# Altium integrated library ON Semi Signal Management Digital POTs.IntLib: 284 symbols (part 2 of 11)
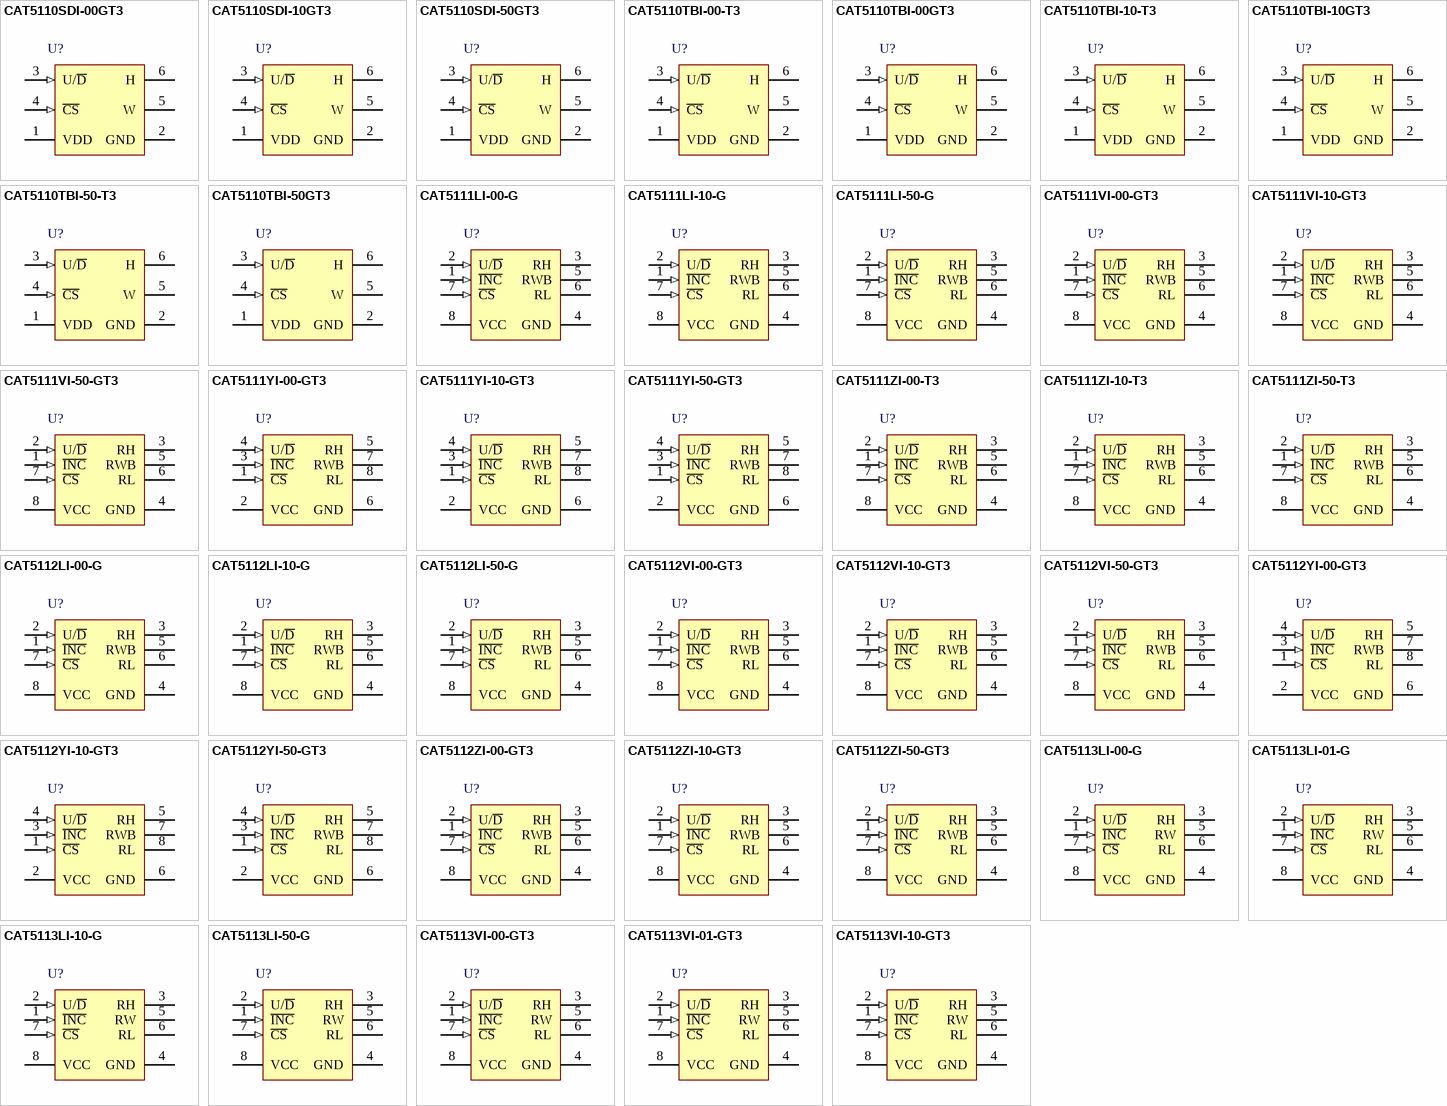
[diagram p10: symbols CAT5110SDI-00GT3 to CAT5113VI-10-GT3]

## CAT5112ZI-50-GT3
designator U?
32 Tap Digital Potentiometer (POT) with Buffered Wiper, -40 to 85 degC, 8-Pin MSOP, Pb-Free, Tape and Reel; Manufacturer: On Semiconductor; PartNumber: CAT5112ZI-50-GT3; # of Pots: 1; # of Taps: 32; Control Interface: Up/Down; VDD Max (V): 6; DatasheetVersion: Rev. 16; PackageVersion: Rev. O, 12/2008; PackageReference: MSOP-8-846AD-01_O; PackageDescription: 8-Pin Small Outline Package, Body 3 x 3 mm, Pitch 0.65 mm; Supplier 1: Digi-Key; Supplier Part Number 1: CAT5112ZI-50-GT3-ND; Supplier 2: Mouser; Supplier Part Number 2: 698-CAT5112ZI-50-GT3; Packing: Tape and Reel; RoHS: TRUE; Type: Potentiometer; Mounting Technology: Surface Mount; Code_JEDEC: MO-187; ComponentLink1Description: Manufacturer URL; ComponentLink1URL: http://www.onsemi.com/; ComponentLink2Description: Datasheet; ComponentLink2URL: http://www.onsemi.com/pub_link/Collateral/CAT5112-D.PDF; ComponentLink3Description: Package Specification; ComponentLink3URL: http://www.onsemi.com/pub_link/Collateral/846AD.PDF
footprint ONSC-MSOP-8-846AD-01_N (SOP, 8-Leads, Body 3.1x3.1mm, Pitch 0.65mm, IPC Medium Density)
footprint ONSC-MSOP-8-846AD-01_L (SOP, 8-Leads, Body 3.1x3.1mm, Pitch 0.65mm, IPC High Density)
footprint ONSC-MSOP-8-846AD-01_M (SOP, 8-Leads, Body 3.1x3.1mm, Pitch 0.65mm, IPC Low Density)
pins: 1 ~{INC} (in) "Increment Control", 2 U/~{D} (in) "Up/Down Control", 3 RH "Potentiometer High Terminal", 4 GND (power) "Ground", 5 RWB "Buffered Wiper Terminal", 6 RL "Potentiometer Low Terminal", 7 ~{CS} (in) "Chip Select", 8 VCC (power) "Supply Voltage"

## CAT5113LI-00-G
designator U?
100 Tap Digital Potentiometer (POT), -40 to 85 degC, 8-Pin PDIP, Pb-Free, Tube; Manufacturer: On Semiconductor; PartNumber: CAT5113LI-00-G; # of Pots: 1; # of Taps: 100; Control Interface: Up/Down; VDD Max (V): 6; DatasheetVersion: Rev. 26; PackageVersion: Rev. A, 03/2009; PackageReference: PDIP-8-646AA-01; PackageDescription: 8-Pin Plastic Dual-In Line Package, Body 9.59 x 6.605 mm, Pitch 2.54 mm; Supplier 1: Digi-Key; Supplier Part Number 1: CAT5113LI-00-G-ND; Supplier 2: Mouser; Supplier Part Number 2: 698-CAT5113LI-00-G; Packing: Tube; RoHS: TRUE; Type: Potentiometer; Mounting Technology: Through Hole; Code_JEDEC: MS-001; ComponentLink1Description: Manufacturer URL; ComponentLink1URL: http://www.onsemi.com/; ComponentLink2Description: Datasheet; ComponentLink2URL: http://www.onsemi.com/pub_link/Collateral/CAT5113-D.PDF; ComponentLink3Description: Package Specification; ComponentLink3URL: http://www.onsemi.com/pub_link/Collateral/646AA.PDF
footprint ONSC-PDIP-8-646AA-01 (DIP, 8-Leads, Body 10.15x7.1mm, Pitch 2.54mm)
pins: 1 ~{INC} (in) "Increment Control", 2 U/~{D} (in) "Up/Down Control", 3 RH "Potentiometer High Terminal", 4 GND (power) "Ground", 5 RW, 6 RL "Potentiometer Low Terminal", 7 ~{CS} (in) "Chip Select", 8 VCC (power) "Supply Voltage"

## CAT5113LI-01-G
designator U?
100 Tap Digital Potentiometer (POT), -40 to 85 degC, 8-Pin PDIP, Pb-Free, Tube; Manufacturer: On Semiconductor; PartNumber: CAT5113LI-01-G; # of Pots: 1; # of Taps: 100; Control Interface: Up/Down; VDD Max (V): 6; DatasheetVersion: Rev. 26; PackageVersion: Rev. A, 03/2009; PackageReference: PDIP-8-646AA-01; PackageDescription: 8-Pin Plastic Dual-In Line Package, Body 9.59 x 6.605 mm, Pitch 2.54 mm; Supplier 1: Digi-Key; Supplier Part Number 1: CAT5113LI-01-G-ND; Supplier 2: Farnell; Supplier Part Number 2: 1718421; Supplier 3: Newark; Supplier Part Number 3: 06R1069; Supplier 4: Mouser; Supplier Part Number 4: 698-CAT5113LI-01-G; Packing: Tube; RoHS: TRUE; Type: Potentiometer; Mounting Technology: Through Hole; Code_JEDEC: MS-001; ComponentLink1Description: Manufacturer URL; ComponentLink1URL: http://www.onsemi.com/; ComponentLink2Description: Datasheet; ComponentLink2URL: http://www.onsemi.com/pub_link/Collateral/CAT5113-D.PDF; ComponentLink3Description: Package Specification; ComponentLink3URL: http://www.onsemi.com/pub_link/Collateral/646AA.PDF
footprint ONSC-PDIP-8-646AA-01 (DIP, 8-Leads, Body 10.15x7.1mm, Pitch 2.54mm)
pins: 1 ~{INC} (in) "Increment Control", 2 U/~{D} (in) "Up/Down Control", 3 RH "Potentiometer High Terminal", 4 GND (power) "Ground", 5 RW, 6 RL "Potentiometer Low Terminal", 7 ~{CS} (in) "Chip Select", 8 VCC (power) "Supply Voltage"

## CAT5113LI-10-G
designator U?
100 Tap Digital Potentiometer (POT), -40 to 85 degC, 8-Pin PDIP, Pb-Free, Tube; Manufacturer: On Semiconductor; PartNumber: CAT5113LI-10-G; # of Pots: 1; # of Taps: 100; Control Interface: Up/Down; VDD Max (V): 6; DatasheetVersion: Rev. 26; PackageVersion: Rev. A, 03/2009; PackageReference: PDIP-8-646AA-01; PackageDescription: 8-Pin Plastic Dual-In Line Package, Body 9.59 x 6.605 mm, Pitch 2.54 mm; Supplier 1: Digi-Key; Supplier Part Number 1: CAT5113LI-10-G-ND; Supplier 2: Farnell; Supplier Part Number 2: 1718054; Supplier 3: Newark; Supplier Part Number 3: 06R1071; Supplier 4: Mouser; Supplier Part Number 4: 698-CAT5113LI-10-G; Packing: Tube; RoHS: TRUE; Type: Potentiometer; Mounting Technology: Through Hole; Code_JEDEC: MS-001; ComponentLink1Description: Manufacturer URL; ComponentLink1URL: http://www.onsemi.com/; ComponentLink2Description: Datasheet; ComponentLink2URL: http://www.onsemi.com/pub_link/Collateral/CAT5113-D.PDF; ComponentLink3Description: Package Specification; ComponentLink3URL: http://www.onsemi.com/pub_link/Collateral/646AA.PDF
footprint ONSC-PDIP-8-646AA-01 (DIP, 8-Leads, Body 10.15x7.1mm, Pitch 2.54mm)
pins: 1 ~{INC} (in) "Increment Control", 2 U/~{D} (in) "Up/Down Control", 3 RH "Potentiometer High Terminal", 4 GND (power) "Ground", 5 RW, 6 RL "Potentiometer Low Terminal", 7 ~{CS} (in) "Chip Select", 8 VCC (power) "Supply Voltage"

## CAT5113LI-50-G
designator U?
100 Tap Digital Potentiometer (POT), -40 to 85 degC, 8-Pin PDIP, Pb-Free, Tube; Manufacturer: On Semiconductor; PartNumber: CAT5113LI-50-G; # of Pots: 1; # of Taps: 100; Control Interface: Up/Down; VDD Max (V): 6; DatasheetVersion: Rev. 26; PackageVersion: Rev. A, 03/2009; PackageReference: PDIP-8-646AA-01; PackageDescription: 8-Pin Plastic Dual-In Line Package, Body 9.59 x 6.605 mm, Pitch 2.54 mm; Supplier 1: Digi-Key; Supplier Part Number 1: CAT5113LI-50-G-ND; Supplier 2: Mouser; Supplier Part Number 2: 698-CAT5113LI-50-G; Packing: Tube; RoHS: TRUE; Type: Potentiometer; Mounting Technology: Through Hole; Code_JEDEC: MS-001; ComponentLink1Description: Manufacturer URL; ComponentLink1URL: http://www.onsemi.com/; ComponentLink2Description: Datasheet; ComponentLink2URL: http://www.onsemi.com/pub_link/Collateral/CAT5113-D.PDF; ComponentLink3Description: Package Specification; ComponentLink3URL: http://www.onsemi.com/pub_link/Collateral/646AA.PDF
footprint ONSC-PDIP-8-646AA-01 (DIP, 8-Leads, Body 10.15x7.1mm, Pitch 2.54mm)
pins: 1 ~{INC} (in) "Increment Control", 2 U/~{D} (in) "Up/Down Control", 3 RH "Potentiometer High Terminal", 4 GND (power) "Ground", 5 RW, 6 RL "Potentiometer Low Terminal", 7 ~{CS} (in) "Chip Select", 8 VCC (power) "Supply Voltage"

## CAT5113VI-00-GT3
designator U?
100 Tap Digital Potentiometer (POT), -40 to 85 degC, 8-Pin SOIC, Pb-Free, Tape and Reel; Manufacturer: On Semiconductor; PartNumber: CAT5113VI-00-GT3; # of Pots: 1; # of Taps: 100; Control Interface: Up/Down; VDD Max (V): 6; DatasheetVersion: Rev. 26; PackageVersion: Rev. O, 12/2008; PackageReference: SOIC-8-751BD-01; PackageDescription: 8-Pin Small Outline Integrated Circuit, Body 4.9 x 3.9 mm, Pitch 1.27 mm; Supplier 1: Digi-Key; Supplier Part Number 1: CAT5113VI-00-GT3-ND; Supplier 2: Newark; Supplier Part Number 2: 06R1076; Supplier 3: Mouser; Supplier Part Number 3: 698-CAT5113VI-00-GT3; Packing: Tape and Reel; RoHS: TRUE; Type: Potentiometer; Mounting Technology: Surface Mount; Code_JEDEC: MS-012; ComponentLink1Description: Manufacturer URL; ComponentLink1URL: http://www.onsemi.com/; ComponentLink2Description: Datasheet; ComponentLink2URL: http://www.onsemi.com/pub_link/Collateral/CAT5113-D.PDF; ComponentLink3Description: Package Specification; ComponentLink3URL: http://www.onsemi.com/pub_link/Collateral/751BD.PDF
footprint ONSC-SOIC-8-751BD-01_N (SOIC, 8-Leads, Body 5x4mm, Pitch 1.27mm, IPC Medium Density)
footprint ONSC-SOIC-8-751BD-01_L (SOIC, 8-Leads, Body 5x4mm, Pitch 1.27mm, IPC High Density)
footprint ONSC-SOIC-8-751BD-01_M (SOIC, 8-Leads, Body 5x4mm, Pitch 1.27mm, IPC Low Density)
pins: 1 ~{INC} (in) "Increment Control", 2 U/~{D} (in) "Up/Down Control", 3 RH "Potentiometer High Terminal", 4 GND (power) "Ground", 5 RW, 6 RL "Potentiometer Low Terminal", 7 ~{CS} (in) "Chip Select", 8 VCC (power) "Supply Voltage"

## CAT5113VI-01-GT3
designator U?
100 Tap Digital Potentiometer (POT), -40 to 85 degC, 8-Pin SOIC, Pb-Free, Tape and Reel; Manufacturer: On Semiconductor; PartNumber: CAT5113VI-01-GT3; # of Pots: 1; # of Taps: 100; Control Interface: Up/Down; VDD Max (V): 6; DatasheetVersion: Rev. 26; PackageVersion: Rev. O, 12/2008; PackageReference: SOIC-8-751BD-01; PackageDescription: 8-Pin Small Outline Integrated Circuit, Body 4.9 x 3.9 mm, Pitch 1.27 mm; Supplier 1: Digi-Key; Supplier Part Number 1: CAT5113VI-01-GT3-ND; Supplier 2: Newark; Supplier Part Number 2: 06R1080; Supplier 3: Mouser; Supplier Part Number 3: 698-CAT5113VI-01-GT3; Packing: Tape and Reel; RoHS: TRUE; Type: Potentiometer; Mounting Technology: Surface Mount; Code_JEDEC: MS-012; ComponentLink1Description: Manufacturer URL; ComponentLink1URL: http://www.onsemi.com/; ComponentLink2Description: Datasheet; ComponentLink2URL: http://www.onsemi.com/pub_link/Collateral/CAT5113-D.PDF; ComponentLink3Description: Package Specification; ComponentLink3URL: http://www.onsemi.com/pub_link/Collateral/751BD.PDF
footprint ONSC-SOIC-8-751BD-01_N (SOIC, 8-Leads, Body 5x4mm, Pitch 1.27mm, IPC Medium Density)
footprint ONSC-SOIC-8-751BD-01_L (SOIC, 8-Leads, Body 5x4mm, Pitch 1.27mm, IPC High Density)
footprint ONSC-SOIC-8-751BD-01_M (SOIC, 8-Leads, Body 5x4mm, Pitch 1.27mm, IPC Low Density)
pins: 1 ~{INC} (in) "Increment Control", 2 U/~{D} (in) "Up/Down Control", 3 RH "Potentiometer High Terminal", 4 GND (power) "Ground", 5 RW, 6 RL "Potentiometer Low Terminal", 7 ~{CS} (in) "Chip Select", 8 VCC (power) "Supply Voltage"

## CAT5113VI-10-GT3
designator U?
100 Tap Digital Potentiometer (POT), -40 to 85 degC, 8-Pin SOIC, Pb-Free, Tape and Reel; Manufacturer: On Semiconductor; PartNumber: CAT5113VI-10-GT3; # of Pots: 1; # of Taps: 100; Control Interface: Up/Down; VDD Max (V): 6; DatasheetVersion: Rev. 26; PackageVersion: Rev. O, 12/2008; PackageReference: SOIC-8-751BD-01; PackageDescription: 8-Pin Small Outline Integrated Circuit, Body 4.9 x 3.9 mm, Pitch 1.27 mm; Supplier 1: Digi-Key; Supplier Part Number 1: CAT5113VI-10-GT3OSTR-ND; Supplier 2: Digi-Key; Supplier Part Number 2: CAT5113VI-10-GT3OSCT-ND; Supplier 3: Digi-Key; Supplier Part Number 3: CAT5113VI-10-GT3OSDKR-ND; Supplier 4: Newark; Supplier Part Number 4: 06R1084; Supplier 5: Mouser; Supplier Part Number 5: 698-CAT5113VI-10-GT3; Packing: Tape and Reel; RoHS: TRUE; Type: Potentiometer; Mounting Technology: Surface Mount; Code_JEDEC: MS-012; ComponentLink1Description: Manufacturer URL; ComponentLink1URL: http://www.onsemi.com/; ComponentLink2Description: Datasheet; ComponentLink2URL: http://www.onsemi.com/pub_link/Collateral/CAT5113-D.PDF; ComponentLink3Description: Package Specification; ComponentLink3URL: http://www.onsemi.com/pub_link/Collateral/751BD.PDF
footprint ONSC-SOIC-8-751BD-01_N (SOIC, 8-Leads, Body 5x4mm, Pitch 1.27mm, IPC Medium Density)
footprint ONSC-SOIC-8-751BD-01_L (SOIC, 8-Leads, Body 5x4mm, Pitch 1.27mm, IPC High Density)
footprint ONSC-SOIC-8-751BD-01_M (SOIC, 8-Leads, Body 5x4mm, Pitch 1.27mm, IPC Low Density)
pins: 1 ~{INC} (in) "Increment Control", 2 U/~{D} (in) "Up/Down Control", 3 RH "Potentiometer High Terminal", 4 GND (power) "Ground", 5 RW, 6 RL "Potentiometer Low Terminal", 7 ~{CS} (in) "Chip Select", 8 VCC (power) "Supply Voltage"

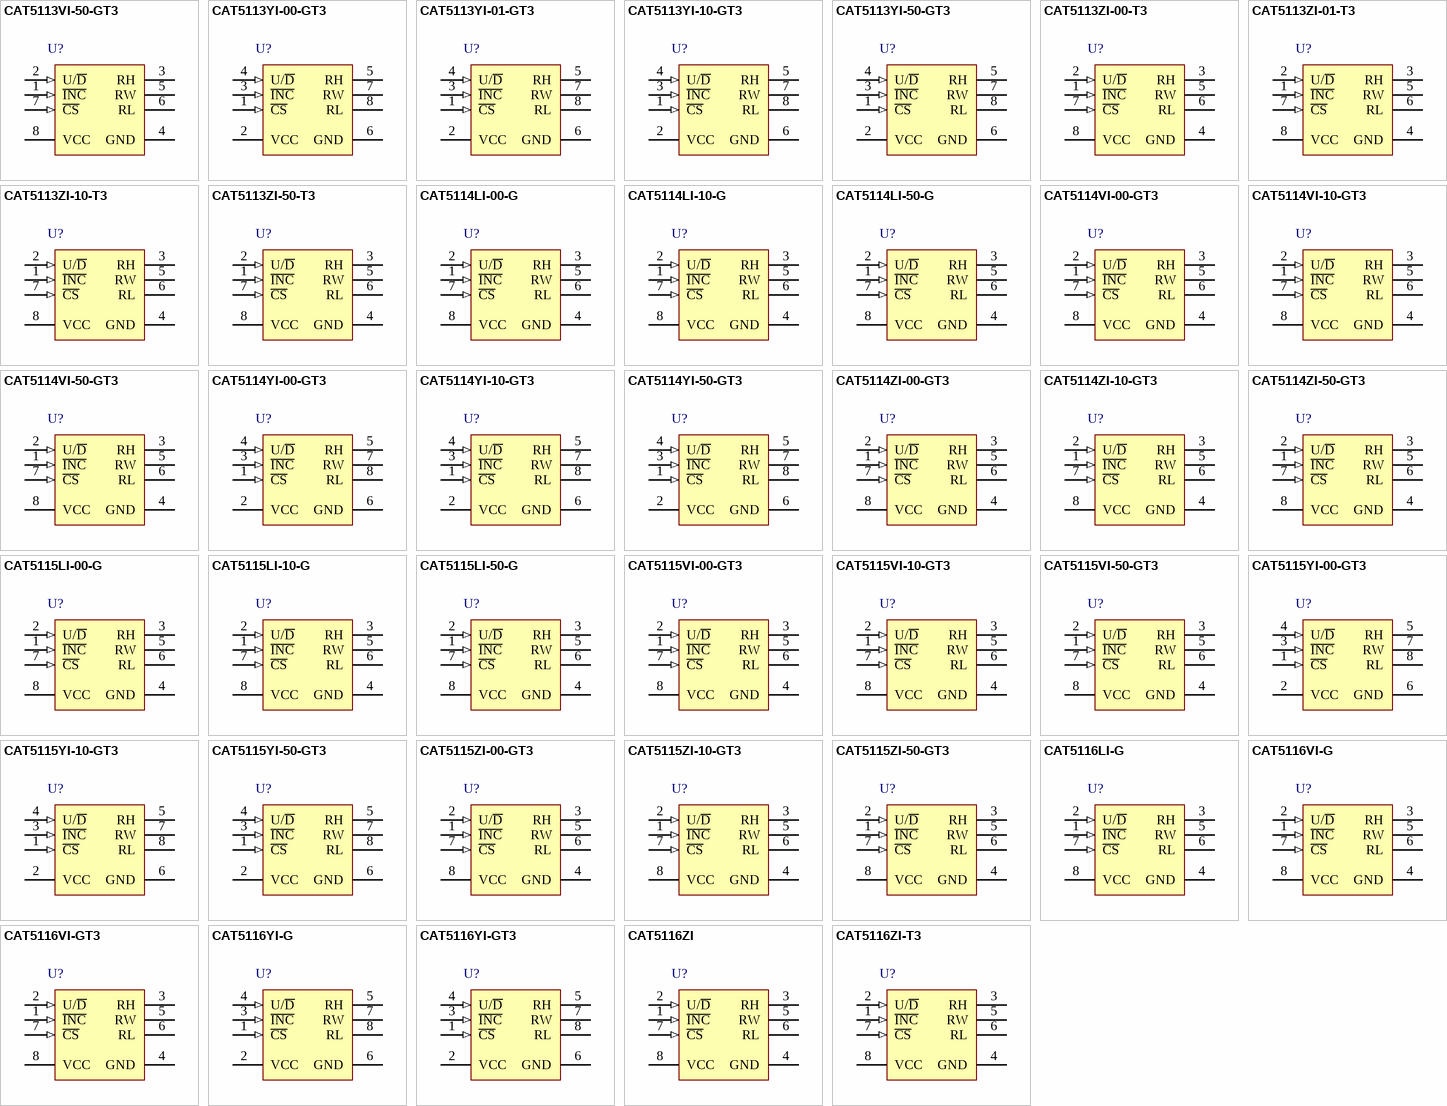
[diagram p1: symbols CAT5113VI-50-GT3 to CAT5116ZI-T3]

## CAT5113VI-50-GT3
designator U?
100 Tap Digital Potentiometer (POT), -40 to 85 degC, 8-Pin SOIC, Pb-Free, Tape and Reel; Manufacturer: On Semiconductor; PartNumber: CAT5113VI-50-GT3; # of Pots: 1; # of Taps: 100; Control Interface: Up/Down; VDD Max (V): 6; DatasheetVersion: Rev. 26; PackageVersion: Rev. O, 12/2008; PackageReference: SOIC-8-751BD-01; PackageDescription: 8-Pin Small Outline Integrated Circuit, Body 4.9 x 3.9 mm, Pitch 1.27 mm; Supplier 1: Digi-Key; Supplier Part Number 1: CAT5113VI-50-GT3-ND; Supplier 2: Newark; Supplier Part Number 2: 06R1088; Supplier 3: Mouser; Supplier Part Number 3: 698-CAT5113VI-50-GT3; Packing: Tape and Reel; RoHS: TRUE; Type: Potentiometer; Mounting Technology: Surface Mount; Code_JEDEC: MS-012; ComponentLink1Description: Manufacturer URL; ComponentLink1URL: http://www.onsemi.com/; ComponentLink2Description: Datasheet; ComponentLink2URL: http://www.onsemi.com/pub_link/Collateral/CAT5113-D.PDF; ComponentLink3Description: Package Specification; ComponentLink3URL: http://www.onsemi.com/pub_link/Collateral/751BD.PDF
footprint ONSC-SOIC-8-751BD-01_N (SOIC, 8-Leads, Body 5x4mm, Pitch 1.27mm, IPC Medium Density)
footprint ONSC-SOIC-8-751BD-01_L (SOIC, 8-Leads, Body 5x4mm, Pitch 1.27mm, IPC High Density)
footprint ONSC-SOIC-8-751BD-01_M (SOIC, 8-Leads, Body 5x4mm, Pitch 1.27mm, IPC Low Density)
pins: 1 ~{INC} (in) "Increment Control", 2 U/~{D} (in) "Up/Down Control", 3 RH "Potentiometer High Terminal", 4 GND (power) "Ground", 5 RW, 6 RL "Potentiometer Low Terminal", 7 ~{CS} (in) "Chip Select", 8 VCC (power) "Supply Voltage"

## CAT5113YI-00-GT3
designator U?
100 Tap Digital Potentiometer (POT), -40 to 85 degC, 8-Pin TSSOP, Pb-Free, Tape and Reel; Manufacturer: On Semiconductor; PartNumber: CAT5113YI-00-GT3; # of Pots: 1; # of Taps: 100; Control Interface: Up/Down; VDD Max (V): 6; DatasheetVersion: Rev. 26; PackageVersion: Rev. O, 12/2008; PackageReference: TSSOP-8-948AL-01; PackageDescription: 8-Pin Small Outline Package, Body 4.4 x 3 mm, Pitch 0.65 mm; Supplier 1: Digi-Key; Supplier Part Number 1: CAT5113YI-00-GT3-ND; Supplier 2: Mouser; Supplier Part Number 2: 698-CAT5113YI-00-GT3; Packing: Tape and Reel; RoHS: TRUE; Type: Potentiometer; Mounting Technology: Surface Mount; Code_JEDEC: MO-153; ComponentLink1Description: Manufacturer URL; ComponentLink1URL: http://www.onsemi.com/; ComponentLink2Description: Datasheet; ComponentLink2URL: http://www.onsemi.com/pub_link/Collateral/CAT5113-D.PDF; ComponentLink3Description: Package Specification; ComponentLink3URL: http://www.onsemi.com/pub/Collateral/948AL.PDF
footprint ONSC-TSSOP-8-948AL-01_N (SOP, 8-Leads, Body 4.5x3.1mm, Pitch 0.65mm, IPC Medium Density)
footprint ONSC-TSSOP-8-948AL-01_L (SOP, 8-Leads, Body 4.5x3.1mm, Pitch 0.65mm, IPC High Density)
footprint ONSC-TSSOP-8-948AL-01_M (SOP, 8-Leads, Body 4.5x3.1mm, Pitch 0.65mm, IPC Low Density)
pins: 1 ~{CS} (in) "Chip Select", 2 VCC (power) "Supply Voltage", 3 ~{INC} (in) "Increment Control", 4 U/~{D} (in) "Up/Down Control", 5 RH "Potentiometer High Terminal", 6 GND (power) "Ground", 7 RW, 8 RL "Potentiometer Low Terminal"

## CAT5113YI-01-GT3
designator U?
100 Tap Digital Potentiometer (POT), -40 to 85 degC, 8-Pin TSSOP, Pb-Free, Tape and Reel; Manufacturer: On Semiconductor; PartNumber: CAT5113YI-01-GT3; # of Pots: 1; # of Taps: 100; Control Interface: Up/Down; VDD Max (V): 6; DatasheetVersion: Rev. 26; PackageVersion: Rev. O, 12/2008; PackageReference: TSSOP-8-948AL-01; PackageDescription: 8-Pin Small Outline Package, Body 4.4 x 3 mm, Pitch 0.65 mm; Supplier 1: Digi-Key; Supplier Part Number 1: CAT5113YI-01-GT3-ND; Supplier 2: Mouser; Supplier Part Number 2: 698-CAT5113YI-01-GT3; Packing: Tape and Reel; RoHS: TRUE; Type: Potentiometer; Mounting Technology: Surface Mount; Code_JEDEC: MO-153; ComponentLink1Description: Manufacturer URL; ComponentLink1URL: http://www.onsemi.com/; ComponentLink2Description: Datasheet; ComponentLink2URL: http://www.onsemi.com/pub_link/Collateral/CAT5113-D.PDF; ComponentLink3Description: Package Specification; ComponentLink3URL: http://www.onsemi.com/pub/Collateral/948AL.PDF
footprint ONSC-TSSOP-8-948AL-01_N (SOP, 8-Leads, Body 4.5x3.1mm, Pitch 0.65mm, IPC Medium Density)
footprint ONSC-TSSOP-8-948AL-01_L (SOP, 8-Leads, Body 4.5x3.1mm, Pitch 0.65mm, IPC High Density)
footprint ONSC-TSSOP-8-948AL-01_M (SOP, 8-Leads, Body 4.5x3.1mm, Pitch 0.65mm, IPC Low Density)
pins: 1 ~{CS} (in) "Chip Select", 2 VCC (power) "Supply Voltage", 3 ~{INC} (in) "Increment Control", 4 U/~{D} (in) "Up/Down Control", 5 RH "Potentiometer High Terminal", 6 GND (power) "Ground", 7 RW, 8 RL "Potentiometer Low Terminal"

## CAT5113YI-10-GT3
designator U?
100 Tap Digital Potentiometer (POT), -40 to 85 degC, 8-Pin TSSOP, Pb-Free, Tape and Reel; Manufacturer: On Semiconductor; PartNumber: CAT5113YI-10-GT3; # of Pots: 1; # of Taps: 100; Control Interface: Up/Down; VDD Max (V): 6; DatasheetVersion: Rev. 26; PackageVersion: Rev. O, 12/2008; PackageReference: TSSOP-8-948AL-01; PackageDescription: 8-Pin Small Outline Package, Body 4.4 x 3 mm, Pitch 0.65 mm; Supplier 1: Digi-Key; Supplier Part Number 1: CAT5113YI-10-GT3-ND; Supplier 2: Mouser; Supplier Part Number 2: 698-CAT5113YI-10-GT3; Packing: Tape and Reel; RoHS: TRUE; Type: Potentiometer; Mounting Technology: Surface Mount; Code_JEDEC: MO-153; ComponentLink1Description: Manufacturer URL; ComponentLink1URL: http://www.onsemi.com/; ComponentLink2Description: Datasheet; ComponentLink2URL: http://www.onsemi.com/pub_link/Collateral/CAT5113-D.PDF; ComponentLink3Description: Package Specification; ComponentLink3URL: http://www.onsemi.com/pub/Collateral/948AL.PDF
footprint ONSC-TSSOP-8-948AL-01_N (SOP, 8-Leads, Body 4.5x3.1mm, Pitch 0.65mm, IPC Medium Density)
footprint ONSC-TSSOP-8-948AL-01_L (SOP, 8-Leads, Body 4.5x3.1mm, Pitch 0.65mm, IPC High Density)
footprint ONSC-TSSOP-8-948AL-01_M (SOP, 8-Leads, Body 4.5x3.1mm, Pitch 0.65mm, IPC Low Density)
pins: 1 ~{CS} (in) "Chip Select", 2 VCC (power) "Supply Voltage", 3 ~{INC} (in) "Increment Control", 4 U/~{D} (in) "Up/Down Control", 5 RH "Potentiometer High Terminal", 6 GND (power) "Ground", 7 RW, 8 RL "Potentiometer Low Terminal"

## CAT5113YI-50-GT3
designator U?
100 Tap Digital Potentiometer (POT), -40 to 85 degC, 8-Pin TSSOP, Pb-Free, Tape and Reel; Manufacturer: On Semiconductor; PartNumber: CAT5113YI-50-GT3; # of Pots: 1; # of Taps: 100; Control Interface: Up/Down; VDD Max (V): 6; DatasheetVersion: Rev. 26; PackageVersion: Rev. O, 12/2008; PackageReference: TSSOP-8-948AL-01; PackageDescription: 8-Pin Small Outline Package, Body 4.4 x 3 mm, Pitch 0.65 mm; Supplier 1: Digi-Key; Supplier Part Number 1: CAT5113YI-50-GT3-ND; Supplier 2: Mouser; Supplier Part Number 2: 698-CAT5113YI-50-GT3; Packing: Tape and Reel; RoHS: TRUE; Type: Potentiometer; Mounting Technology: Surface Mount; Code_JEDEC: MO-153; ComponentLink1Description: Manufacturer URL; ComponentLink1URL: http://www.onsemi.com/; ComponentLink2Description: Datasheet; ComponentLink2URL: http://www.onsemi.com/pub_link/Collateral/CAT5113-D.PDF; ComponentLink3Description: Package Specification; ComponentLink3URL: http://www.onsemi.com/pub/Collateral/948AL.PDF
footprint ONSC-TSSOP-8-948AL-01_N (SOP, 8-Leads, Body 4.5x3.1mm, Pitch 0.65mm, IPC Medium Density)
footprint ONSC-TSSOP-8-948AL-01_L (SOP, 8-Leads, Body 4.5x3.1mm, Pitch 0.65mm, IPC High Density)
footprint ONSC-TSSOP-8-948AL-01_M (SOP, 8-Leads, Body 4.5x3.1mm, Pitch 0.65mm, IPC Low Density)
pins: 1 ~{CS} (in) "Chip Select", 2 VCC (power) "Supply Voltage", 3 ~{INC} (in) "Increment Control", 4 U/~{D} (in) "Up/Down Control", 5 RH "Potentiometer High Terminal", 6 GND (power) "Ground", 7 RW, 8 RL "Potentiometer Low Terminal"

## CAT5113ZI-00-T3
designator U?
100 Tap Digital Potentiometer (POT), -40 to 85 degC, 8-Pin MSOP, Pb-Free, Tape and Reel; Manufacturer: On Semiconductor; PartNumber: CAT5113ZI-00-T3; # of Pots: 1; # of Taps: 100; Control Interface: Up/Down; VDD Max (V): 6; DatasheetVersion: Rev. 26; PackageVersion: Rev. O, 12/2008; PackageReference: MSOP-8-846AD-01_O; PackageDescription: 8-Pin Small Outline Package, Body 3 x 3 mm, Pitch 0.65 mm; Supplier 1: Mouser; Supplier Part Number 1: 698-CAT5113ZI-00-T3; Packing: Tape and Reel; RoHS: TRUE; Type: Potentiometer; Mounting Technology: Surface Mount; Code_JEDEC: MO-187; ComponentLink1Description: Manufacturer URL; ComponentLink1URL: http://www.onsemi.com/; ComponentLink2Description: Datasheet; ComponentLink2URL: http://www.onsemi.com/pub_link/Collateral/CAT5113-D.PDF; ComponentLink3Description: Package Specification; ComponentLink3URL: http://www.onsemi.com/pub_link/Collateral/846AD.PDF
footprint ONSC-MSOP-8-846AD-01_N (SOP, 8-Leads, Body 3.1x3.1mm, Pitch 0.65mm, IPC Medium Density)
footprint ONSC-MSOP-8-846AD-01_L (SOP, 8-Leads, Body 3.1x3.1mm, Pitch 0.65mm, IPC High Density)
footprint ONSC-MSOP-8-846AD-01_M (SOP, 8-Leads, Body 3.1x3.1mm, Pitch 0.65mm, IPC Low Density)
pins: 1 ~{INC} (in) "Increment Control", 2 U/~{D} (in) "Up/Down Control", 3 RH "Potentiometer High Terminal", 4 GND (power) "Ground", 5 RW, 6 RL "Potentiometer Low Terminal", 7 ~{CS} (in) "Chip Select", 8 VCC (power) "Supply Voltage"

## CAT5113ZI-01-T3
designator U?
100 Tap Digital Potentiometer (POT), -40 to 85 degC, 8-Pin MSOP, Pb-Free, Tape and Reel; Manufacturer: On Semiconductor; PartNumber: CAT5113ZI-01-T3; # of Pots: 1; # of Taps: 100; Control Interface: Up/Down; VDD Max (V): 6; DatasheetVersion: Rev. 26; PackageVersion: Rev. O, 12/2008; PackageReference: MSOP-8-846AD-01_O; PackageDescription: 8-Pin Small Outline Package, Body 3 x 3 mm, Pitch 0.65 mm; Supplier 1: Digi-Key; Supplier Part Number 1: CAT5113ZI-01-T3-ND; Supplier 2: Mouser; Supplier Part Number 2: 698-CAT5113ZI-01-T3; Packing: Tape and Reel; RoHS: TRUE; Type: Potentiometer; Mounting Technology: Surface Mount; Code_JEDEC: MO-187; ComponentLink1Description: Manufacturer URL; ComponentLink1URL: http://www.onsemi.com/; ComponentLink2Description: Datasheet; ComponentLink2URL: http://www.onsemi.com/pub_link/Collateral/CAT5113-D.PDF; ComponentLink3Description: Package Specification; ComponentLink3URL: http://www.onsemi.com/pub_link/Collateral/846AD.PDF
footprint ONSC-MSOP-8-846AD-01_N (SOP, 8-Leads, Body 3.1x3.1mm, Pitch 0.65mm, IPC Medium Density)
footprint ONSC-MSOP-8-846AD-01_L (SOP, 8-Leads, Body 3.1x3.1mm, Pitch 0.65mm, IPC High Density)
footprint ONSC-MSOP-8-846AD-01_M (SOP, 8-Leads, Body 3.1x3.1mm, Pitch 0.65mm, IPC Low Density)
pins: 1 ~{INC} (in) "Increment Control", 2 U/~{D} (in) "Up/Down Control", 3 RH "Potentiometer High Terminal", 4 GND (power) "Ground", 5 RW, 6 RL "Potentiometer Low Terminal", 7 ~{CS} (in) "Chip Select", 8 VCC (power) "Supply Voltage"

## CAT5113ZI-10-T3
designator U?
100 Tap Digital Potentiometer (POT), -40 to 85 degC, 8-Pin MSOP, Pb-Free, Tape and Reel; Manufacturer: On Semiconductor; PartNumber: CAT5113ZI-10-T3; # of Pots: 1; # of Taps: 100; Control Interface: Up/Down; VDD Max (V): 6; DatasheetVersion: Rev. 26; PackageVersion: Rev. O, 12/2008; PackageReference: MSOP-8-846AD-01_O; PackageDescription: 8-Pin Small Outline Package, Body 3 x 3 mm, Pitch 0.65 mm; Supplier 1: Digi-Key; Supplier Part Number 1: CAT5113ZI-10-T3-ND; Supplier 2: Newark; Supplier Part Number 2: 06R1111; Supplier 3: Mouser; Supplier Part Number 3: 698-CAT5113ZI-10-T3; Packing: Tape and Reel; RoHS: TRUE; Type: Potentiometer; Mounting Technology: Surface Mount; Code_JEDEC: MO-187; ComponentLink1Description: Manufacturer URL; ComponentLink1URL: http://www.onsemi.com/; ComponentLink2Description: Datasheet; ComponentLink2URL: http://www.onsemi.com/pub_link/Collateral/CAT5113-D.PDF; ComponentLink3Description: Package Specification; ComponentLink3URL: http://www.onsemi.com/pub_link/Collateral/846AD.PDF
footprint ONSC-MSOP-8-846AD-01_N (SOP, 8-Leads, Body 3.1x3.1mm, Pitch 0.65mm, IPC Medium Density)
footprint ONSC-MSOP-8-846AD-01_L (SOP, 8-Leads, Body 3.1x3.1mm, Pitch 0.65mm, IPC High Density)
footprint ONSC-MSOP-8-846AD-01_M (SOP, 8-Leads, Body 3.1x3.1mm, Pitch 0.65mm, IPC Low Density)
pins: 1 ~{INC} (in) "Increment Control", 2 U/~{D} (in) "Up/Down Control", 3 RH "Potentiometer High Terminal", 4 GND (power) "Ground", 5 RW, 6 RL "Potentiometer Low Terminal", 7 ~{CS} (in) "Chip Select", 8 VCC (power) "Supply Voltage"

## CAT5113ZI-50-T3
designator U?
100 Tap Digital Potentiometer (POT), -40 to 85 degC, 8-Pin MSOP, Pb-Free, Tape and Reel; Manufacturer: On Semiconductor; PartNumber: CAT5113ZI-50-T3; # of Pots: 1; # of Taps: 100; Control Interface: Up/Down; VDD Max (V): 6; DatasheetVersion: Rev. 26; PackageVersion: Rev. O, 12/2008; PackageReference: MSOP-8-846AD-01_O; PackageDescription: 8-Pin Small Outline Package, Body 3 x 3 mm, Pitch 0.65 mm; Supplier 1: Digi-Key; Supplier Part Number 1: CAT5113ZI-50-T3-ND; Supplier 2: Mouser; Supplier Part Number 2: 698-CAT5113ZI-50-T3; Packing: Tape and Reel; RoHS: TRUE; Type: Potentiometer; Mounting Technology: Surface Mount; Code_JEDEC: MO-187; ComponentLink1Description: Manufacturer URL; ComponentLink1URL: http://www.onsemi.com/; ComponentLink2Description: Datasheet; ComponentLink2URL: http://www.onsemi.com/pub_link/Collateral/CAT5113-D.PDF; ComponentLink3Description: Package Specification; ComponentLink3URL: http://www.onsemi.com/pub_link/Collateral/846AD.PDF
footprint ONSC-MSOP-8-846AD-01_N (SOP, 8-Leads, Body 3.1x3.1mm, Pitch 0.65mm, IPC Medium Density)
footprint ONSC-MSOP-8-846AD-01_L (SOP, 8-Leads, Body 3.1x3.1mm, Pitch 0.65mm, IPC High Density)
footprint ONSC-MSOP-8-846AD-01_M (SOP, 8-Leads, Body 3.1x3.1mm, Pitch 0.65mm, IPC Low Density)
pins: 1 ~{INC} (in) "Increment Control", 2 U/~{D} (in) "Up/Down Control", 3 RH "Potentiometer High Terminal", 4 GND (power) "Ground", 5 RW, 6 RL "Potentiometer Low Terminal", 7 ~{CS} (in) "Chip Select", 8 VCC (power) "Supply Voltage"

## CAT5114LI-00-G
designator U?
32 Tap Digital Potentiometer (POT), -40 to 85 degC, 8-Pin PDIP, Pb-Free, Tube; Manufacturer: On Semiconductor; PartNumber: CAT5114LI-00-G; # of Pots: 1; # of Taps: 32; Control Interface: Up/Down; VDD Max (V): 6; DatasheetVersion: Rev. 23; PackageVersion: Rev. A, 03/2009; PackageReference: PDIP-8-646AA-01; PackageDescription: 8-Pin Plastic Dual-In Line Package, Body 9.59 x 6.605 mm, Pitch 2.54 mm; Supplier 1: Digi-Key; Supplier Part Number 1: CAT5114LI-00-G-ND; Supplier 2: Newark; Supplier Part Number 2: 06R1115; Supplier 3: Mouser; Supplier Part Number 3: 698-CAT5114LI-00-G; Packing: Tube; RoHS: TRUE; Type: Potentiometer; Mounting Technology: Through Hole; Code_JEDEC: MS-001; ComponentLink1Description: Manufacturer URL; ComponentLink1URL: http://www.onsemi.com/; ComponentLink2Description: Datasheet; ComponentLink2URL: http://www.onsemi.com/pub_link/Collateral/CAT5114-D.PDF; ComponentLink3Description: Package Specification; ComponentLink3URL: http://www.onsemi.com/pub_link/Collateral/646AA.PDF
footprint ONSC-PDIP-8-646AA-01 (DIP, 8-Leads, Body 10.15x7.1mm, Pitch 2.54mm)
pins: 1 ~{INC} (in) "Increment Control", 2 U/~{D} (in) "Up/Down Control", 3 RH "Potentiometer High Terminal", 4 GND (power) "Ground", 5 RW, 6 RL "Potentiometer Low Terminal", 7 ~{CS} (in) "Chip Select", 8 VCC (power) "Supply Voltage"

## CAT5114LI-10-G
designator U?
32 Tap Digital Potentiometer (POT), -40 to 85 degC, 8-Pin PDIP, Pb-Free, Tube; Manufacturer: On Semiconductor; PartNumber: CAT5114LI-10-G; # of Pots: 1; # of Taps: 32; Control Interface: Up/Down; VDD Max (V): 6; DatasheetVersion: Rev. 23; PackageVersion: Rev. A, 03/2009; PackageReference: PDIP-8-646AA-01; PackageDescription: 8-Pin Plastic Dual-In Line Package, Body 9.59 x 6.605 mm, Pitch 2.54 mm; Supplier 1: Digi-Key; Supplier Part Number 1: CAT5114LI-10-G-ND; Supplier 2: Mouser; Supplier Part Number 2: 698-CAT5114LI-10-G; Packing: Tube; RoHS: TRUE; Type: Potentiometer; Mounting Technology: Through Hole; Code_JEDEC: MS-001; ComponentLink1Description: Manufacturer URL; ComponentLink1URL: http://www.onsemi.com/; ComponentLink2Description: Datasheet; ComponentLink2URL: http://www.onsemi.com/pub_link/Collateral/CAT5114-D.PDF; ComponentLink3Description: Package Specification; ComponentLink3URL: http://www.onsemi.com/pub_link/Collateral/646AA.PDF
footprint ONSC-PDIP-8-646AA-01 (DIP, 8-Leads, Body 10.15x7.1mm, Pitch 2.54mm)
pins: 1 ~{INC} (in) "Increment Control", 2 U/~{D} (in) "Up/Down Control", 3 RH "Potentiometer High Terminal", 4 GND (power) "Ground", 5 RW, 6 RL "Potentiometer Low Terminal", 7 ~{CS} (in) "Chip Select", 8 VCC (power) "Supply Voltage"

## CAT5114LI-50-G
designator U?
32 Tap Digital Potentiometer (POT), -40 to 85 degC, 8-Pin PDIP, Pb-Free, Tube; Manufacturer: On Semiconductor; PartNumber: CAT5114LI-50-G; # of Pots: 1; # of Taps: 32; Control Interface: Up/Down; VDD Max (V): 6; DatasheetVersion: Rev. 23; PackageVersion: Rev. A, 03/2009; PackageReference: PDIP-8-646AA-01; PackageDescription: 8-Pin Plastic Dual-In Line Package, Body 9.59 x 6.605 mm, Pitch 2.54 mm; Supplier 1: Digi-Key; Supplier Part Number 1: CAT5114LI-50-G-ND; Supplier 2: Mouser; Supplier Part Number 2: 698-CAT5114LI-50-G; Packing: Tube; RoHS: TRUE; Type: Potentiometer; Mounting Technology: Through Hole; Code_JEDEC: MS-001; ComponentLink1Description: Manufacturer URL; ComponentLink1URL: http://www.onsemi.com/; ComponentLink2Description: Datasheet; ComponentLink2URL: http://www.onsemi.com/pub_link/Collateral/CAT5114-D.PDF; ComponentLink3Description: Package Specification; ComponentLink3URL: http://www.onsemi.com/pub_link/Collateral/646AA.PDF
footprint ONSC-PDIP-8-646AA-01 (DIP, 8-Leads, Body 10.15x7.1mm, Pitch 2.54mm)
pins: 1 ~{INC} (in) "Increment Control", 2 U/~{D} (in) "Up/Down Control", 3 RH "Potentiometer High Terminal", 4 GND (power) "Ground", 5 RW, 6 RL "Potentiometer Low Terminal", 7 ~{CS} (in) "Chip Select", 8 VCC (power) "Supply Voltage"

## CAT5114VI-00-GT3
designator U?
32 Tap Digital Potentiometer (POT), -40 to 85 degC, 8-Pin SOIC, Pb-Free, Tape and Reel; Manufacturer: On Semiconductor; PartNumber: CAT5114VI-00-GT3; # of Pots: 1; # of Taps: 32; Control Interface: Up/Down; VDD Max (V): 6; DatasheetVersion: Rev. 23; PackageVersion: Rev. O, 12/2008; PackageReference: SOIC-8-751BD-01; PackageDescription: 8-Pin Small Outline Integrated Circuit, Body 4.9 x 3.9 mm, Pitch 1.27 mm; Supplier 1: Digi-Key; Supplier Part Number 1: CAT5114VI-00-GT3-ND; Supplier 2: Farnell; Supplier Part Number 2: 1656129; Supplier 3: Mouser; Supplier Part Number 3: 698-CAT5114VI-00-GT3; Packing: Tape and Reel; RoHS: TRUE; Type: Potentiometer; Mounting Technology: Surface Mount; Code_JEDEC: MS-012; ComponentLink1Description: Manufacturer URL; ComponentLink1URL: http://www.onsemi.com/; ComponentLink2Description: Datasheet; ComponentLink2URL: http://www.onsemi.com/pub_link/Collateral/CAT5114-D.PDF; ComponentLink3Description: Package Specification; ComponentLink3URL: http://www.onsemi.com/pub_link/Collateral/751BD.PDF
footprint ONSC-SOIC-8-751BD-01_N (SOIC, 8-Leads, Body 5x4mm, Pitch 1.27mm, IPC Medium Density)
footprint ONSC-SOIC-8-751BD-01_L (SOIC, 8-Leads, Body 5x4mm, Pitch 1.27mm, IPC High Density)
footprint ONSC-SOIC-8-751BD-01_M (SOIC, 8-Leads, Body 5x4mm, Pitch 1.27mm, IPC Low Density)
pins: 1 ~{INC} (in) "Increment Control", 2 U/~{D} (in) "Up/Down Control", 3 RH "Potentiometer High Terminal", 4 GND (power) "Ground", 5 RW, 6 RL "Potentiometer Low Terminal", 7 ~{CS} (in) "Chip Select", 8 VCC (power) "Supply Voltage"

## CAT5114VI-10-GT3
designator U?
32 Tap Digital Potentiometer (POT), -40 to 85 degC, 8-Pin SOIC, Pb-Free, Tape and Reel; Manufacturer: On Semiconductor; PartNumber: CAT5114VI-10-GT3; # of Pots: 1; # of Taps: 32; Control Interface: Up/Down; VDD Max (V): 6; DatasheetVersion: Rev. 23; PackageVersion: Rev. O, 12/2008; PackageReference: SOIC-8-751BD-01; PackageDescription: 8-Pin Small Outline Integrated Circuit, Body 4.9 x 3.9 mm, Pitch 1.27 mm; Supplier 1: Digi-Key; Supplier Part Number 1: CAT5114VI-10-GT3OSTR-ND; Supplier 2: Digi-Key; Supplier Part Number 2: CAT5114VI-10-GT3OSCT-ND; Supplier 3: Digi-Key; Supplier Part Number 3: CAT5114VI-10-GT3OSDKR-ND; Supplier 4: Newark; Supplier Part Number 4: 06R1126; Supplier 5: Mouser; Supplier Part Number 5: 698-CAT5114VI-10-GT3; Packing: Tape and Reel; RoHS: TRUE; Type: Potentiometer; Mounting Technology: Surface Mount; Code_JEDEC: MS-012; ComponentLink1Description: Manufacturer URL; ComponentLink1URL: http://www.onsemi.com/; ComponentLink2Description: Datasheet; ComponentLink2URL: http://www.onsemi.com/pub_link/Collateral/CAT5114-D.PDF; ComponentLink3Description: Package Specification; ComponentLink3URL: http://www.onsemi.com/pub_link/Collateral/751BD.PDF
footprint ONSC-SOIC-8-751BD-01_N (SOIC, 8-Leads, Body 5x4mm, Pitch 1.27mm, IPC Medium Density)
footprint ONSC-SOIC-8-751BD-01_L (SOIC, 8-Leads, Body 5x4mm, Pitch 1.27mm, IPC High Density)
footprint ONSC-SOIC-8-751BD-01_M (SOIC, 8-Leads, Body 5x4mm, Pitch 1.27mm, IPC Low Density)
pins: 1 ~{INC} (in) "Increment Control", 2 U/~{D} (in) "Up/Down Control", 3 RH "Potentiometer High Terminal", 4 GND (power) "Ground", 5 RW, 6 RL "Potentiometer Low Terminal", 7 ~{CS} (in) "Chip Select", 8 VCC (power) "Supply Voltage"

## CAT5114VI-50-GT3
designator U?
32 Tap Digital Potentiometer (POT), -40 to 85 degC, 8-Pin SOIC, Pb-Free, Tape and Reel; Manufacturer: On Semiconductor; PartNumber: CAT5114VI-50-GT3; # of Pots: 1; # of Taps: 32; Control Interface: Up/Down; VDD Max (V): 6; DatasheetVersion: Rev. 23; PackageVersion: Rev. O, 12/2008; PackageReference: SOIC-8-751BD-01; PackageDescription: 8-Pin Small Outline Integrated Circuit, Body 4.9 x 3.9 mm, Pitch 1.27 mm; Supplier 1: Digi-Key; Supplier Part Number 1: CAT5114VI-50-GT3-ND; Supplier 2: Mouser; Supplier Part Number 2: 698-CAT5114VI-50-GT3; Packing: Tape and Reel; RoHS: TRUE; Type: Potentiometer; Mounting Technology: Surface Mount; Code_JEDEC: MS-012; ComponentLink1Description: Manufacturer URL; ComponentLink1URL: http://www.onsemi.com/; ComponentLink2Description: Datasheet; ComponentLink2URL: http://www.onsemi.com/pub_link/Collateral/CAT5114-D.PDF; ComponentLink3Description: Package Specification; ComponentLink3URL: http://www.onsemi.com/pub_link/Collateral/751BD.PDF
footprint ONSC-SOIC-8-751BD-01_N (SOIC, 8-Leads, Body 5x4mm, Pitch 1.27mm, IPC Medium Density)
footprint ONSC-SOIC-8-751BD-01_L (SOIC, 8-Leads, Body 5x4mm, Pitch 1.27mm, IPC High Density)
footprint ONSC-SOIC-8-751BD-01_M (SOIC, 8-Leads, Body 5x4mm, Pitch 1.27mm, IPC Low Density)
pins: 1 ~{INC} (in) "Increment Control", 2 U/~{D} (in) "Up/Down Control", 3 RH "Potentiometer High Terminal", 4 GND (power) "Ground", 5 RW, 6 RL "Potentiometer Low Terminal", 7 ~{CS} (in) "Chip Select", 8 VCC (power) "Supply Voltage"

## CAT5114YI-00-GT3
designator U?
32 Tap Digital Potentiometer (POT), -40 to 85 degC, 8-Pin TSSOP, Pb-Free, Tape and Reel; Manufacturer: On Semiconductor; PartNumber: CAT5114YI-00-GT3; # of Pots: 1; # of Taps: 32; Control Interface: Up/Down; VDD Max (V): 6; DatasheetVersion: Rev. 23; PackageVersion: Rev. O, 12/2008; PackageReference: TSSOP-8-948AL-01; PackageDescription: 8-Pin Small Outline Package, Body 4.4 x 3 mm, Pitch 0.65 mm; Supplier 1: Digi-Key; Supplier Part Number 1: CAT5114YI-00-GT3-ND; Supplier 2: Mouser; Supplier Part Number 2: 863-CAT5114YI-00-GT3; Packing: Tape and Reel; RoHS: TRUE; Type: Potentiometer; Mounting Technology: Surface Mount; Code_JEDEC: MO-153; ComponentLink1Description: Manufacturer URL; ComponentLink1URL: http://www.onsemi.com/; ComponentLink2Description: Datasheet; ComponentLink2URL: http://www.onsemi.com/pub_link/Collateral/CAT5114-D.PDF; ComponentLink3Description: Package Specification; ComponentLink3URL: http://www.onsemi.com/pub/Collateral/948AL.PDF
footprint ONSC-TSSOP-8-948AL-01_N (SOP, 8-Leads, Body 4.5x3.1mm, Pitch 0.65mm, IPC Medium Density)
footprint ONSC-TSSOP-8-948AL-01_L (SOP, 8-Leads, Body 4.5x3.1mm, Pitch 0.65mm, IPC High Density)
footprint ONSC-TSSOP-8-948AL-01_M (SOP, 8-Leads, Body 4.5x3.1mm, Pitch 0.65mm, IPC Low Density)
pins: 1 ~{CS} (in) "Chip Select", 2 VCC (power) "Supply Voltage", 3 ~{INC} (in) "Increment Control", 4 U/~{D} (in) "Up/Down Control", 5 RH "Potentiometer High Terminal", 6 GND (power) "Ground", 7 RW, 8 RL "Potentiometer Low Terminal"

## CAT5114YI-10-GT3
designator U?
32 Tap Digital Potentiometer (POT), -40 to 85 degC, 8-Pin TSSOP, Pb-Free, Tape and Reel; Manufacturer: On Semiconductor; PartNumber: CAT5114YI-10-GT3; # of Pots: 1; # of Taps: 32; Control Interface: Up/Down; VDD Max (V): 6; DatasheetVersion: Rev. 23; PackageVersion: Rev. O, 12/2008; PackageReference: TSSOP-8-948AL-01; PackageDescription: 8-Pin Small Outline Package, Body 4.4 x 3 mm, Pitch 0.65 mm; Supplier 1: Digi-Key; Supplier Part Number 1: CAT5114YI-10-GT3-ND; Supplier 2: Mouser; Supplier Part Number 2: 698-CAT5114YI-10-GT3; Packing: Tape and Reel; RoHS: TRUE; Type: Potentiometer; Mounting Technology: Surface Mount; Code_JEDEC: MO-153; ComponentLink1Description: Manufacturer URL; ComponentLink1URL: http://www.onsemi.com/; ComponentLink2Description: Datasheet; ComponentLink2URL: http://www.onsemi.com/pub_link/Collateral/CAT5114-D.PDF; ComponentLink3Description: Package Specification; ComponentLink3URL: http://www.onsemi.com/pub/Collateral/948AL.PDF
footprint ONSC-TSSOP-8-948AL-01_N (SOP, 8-Leads, Body 4.5x3.1mm, Pitch 0.65mm, IPC Medium Density)
footprint ONSC-TSSOP-8-948AL-01_L (SOP, 8-Leads, Body 4.5x3.1mm, Pitch 0.65mm, IPC High Density)
footprint ONSC-TSSOP-8-948AL-01_M (SOP, 8-Leads, Body 4.5x3.1mm, Pitch 0.65mm, IPC Low Density)
pins: 1 ~{CS} (in) "Chip Select", 2 VCC (power) "Supply Voltage", 3 ~{INC} (in) "Increment Control", 4 U/~{D} (in) "Up/Down Control", 5 RH "Potentiometer High Terminal", 6 GND (power) "Ground", 7 RW, 8 RL "Potentiometer Low Terminal"

## CAT5114YI-50-GT3
designator U?
32 Tap Digital Potentiometer (POT), -40 to 85 degC, 8-Pin TSSOP, Pb-Free, Tape and Reel; Manufacturer: On Semiconductor; PartNumber: CAT5114YI-50-GT3; # of Pots: 1; # of Taps: 32; Control Interface: Up/Down; VDD Max (V): 6; DatasheetVersion: Rev. 23; PackageVersion: Rev. O, 12/2008; PackageReference: TSSOP-8-948AL-01; PackageDescription: 8-Pin Small Outline Package, Body 4.4 x 3 mm, Pitch 0.65 mm; Packing: Tape and Reel; RoHS: TRUE; Type: Potentiometer; Mounting Technology: Surface Mount; Code_JEDEC: MO-153; ComponentLink1Description: Manufacturer URL; ComponentLink1URL: http://www.onsemi.com/; ComponentLink2Description: Datasheet; ComponentLink2URL: http://www.onsemi.com/pub_link/Collateral/CAT5114-D.PDF; ComponentLink3Description: Package Specification; ComponentLink3URL: http://www.onsemi.com/pub/Collateral/948AL.PDF
footprint ONSC-TSSOP-8-948AL-01_N (SOP, 8-Leads, Body 4.5x3.1mm, Pitch 0.65mm, IPC Medium Density)
footprint ONSC-TSSOP-8-948AL-01_L (SOP, 8-Leads, Body 4.5x3.1mm, Pitch 0.65mm, IPC High Density)
footprint ONSC-TSSOP-8-948AL-01_M (SOP, 8-Leads, Body 4.5x3.1mm, Pitch 0.65mm, IPC Low Density)
pins: 1 ~{CS} (in) "Chip Select", 2 VCC (power) "Supply Voltage", 3 ~{INC} (in) "Increment Control", 4 U/~{D} (in) "Up/Down Control", 5 RH "Potentiometer High Terminal", 6 GND (power) "Ground", 7 RW, 8 RL "Potentiometer Low Terminal"

## CAT5114ZI-00-GT3
designator U?
32 Tap Digital Potentiometer (POT), -40 to 85 degC, 8-Pin MSOP, Pb-Free, Tape and Reel; Manufacturer: On Semiconductor; PartNumber: CAT5114ZI-00-GT3; # of Pots: 1; # of Taps: 32; Control Interface: Up/Down; VDD Max (V): 6; DatasheetVersion: Rev. 23; PackageVersion: Rev. O, 12/2008; PackageReference: MSOP-8-846AD-01_O; PackageDescription: 8-Pin Small Outline Package, Body 3 x 3 mm, Pitch 0.65 mm; Supplier 1: Digi-Key; Supplier Part Number 1: CAT5114ZI-00-GT3-ND; Supplier 2: Mouser; Supplier Part Number 2: 698-CAT5114ZI-00-GT3; Packing: Tape and Reel; RoHS: TRUE; Type: Potentiometer; Mounting Technology: Surface Mount; Code_JEDEC: MO-187; ComponentLink1Description: Manufacturer URL; ComponentLink1URL: http://www.onsemi.com/; ComponentLink2Description: Datasheet; ComponentLink2URL: http://www.onsemi.com/pub_link/Collateral/CAT5114-D.PDF; ComponentLink3Description: Package Specification; ComponentLink3URL: http://www.onsemi.com/pub_link/Collateral/846AD.PDF
footprint ONSC-MSOP-8-846AD-01_N (SOP, 8-Leads, Body 3.1x3.1mm, Pitch 0.65mm, IPC Medium Density)
footprint ONSC-MSOP-8-846AD-01_L (SOP, 8-Leads, Body 3.1x3.1mm, Pitch 0.65mm, IPC High Density)
footprint ONSC-MSOP-8-846AD-01_M (SOP, 8-Leads, Body 3.1x3.1mm, Pitch 0.65mm, IPC Low Density)
pins: 1 ~{INC} (in) "Increment Control", 2 U/~{D} (in) "Up/Down Control", 3 RH "Potentiometer High Terminal", 4 GND (power) "Ground", 5 RW, 6 RL "Potentiometer Low Terminal", 7 ~{CS} (in) "Chip Select", 8 VCC (power) "Supply Voltage"

## CAT5114ZI-10-GT3
designator U?
32 Tap Digital Potentiometer (POT), -40 to 85 degC, 8-Pin MSOP, Pb-Free, Tape and Reel; Manufacturer: On Semiconductor; PartNumber: CAT5114ZI-10-GT3; # of Pots: 1; # of Taps: 32; Control Interface: Up/Down; VDD Max (V): 6; DatasheetVersion: Rev. 23; PackageVersion: Rev. O, 12/2008; PackageReference: MSOP-8-846AD-01_O; PackageDescription: 8-Pin Small Outline Package, Body 3 x 3 mm, Pitch 0.65 mm; Supplier 1: Digi-Key; Supplier Part Number 1: CAT5114ZI-10-GT3-ND; Supplier 2: Mouser; Supplier Part Number 2: 698-CAT5114ZI-10-GT3; Packing: Tape and Reel; RoHS: TRUE; Type: Potentiometer; Mounting Technology: Surface Mount; Code_JEDEC: MO-187; ComponentLink1Description: Manufacturer URL; ComponentLink1URL: http://www.onsemi.com/; ComponentLink2Description: Datasheet; ComponentLink2URL: http://www.onsemi.com/pub_link/Collateral/CAT5114-D.PDF; ComponentLink3Description: Package Specification; ComponentLink3URL: http://www.onsemi.com/pub_link/Collateral/846AD.PDF
footprint ONSC-MSOP-8-846AD-01_N (SOP, 8-Leads, Body 3.1x3.1mm, Pitch 0.65mm, IPC Medium Density)
footprint ONSC-MSOP-8-846AD-01_L (SOP, 8-Leads, Body 3.1x3.1mm, Pitch 0.65mm, IPC High Density)
footprint ONSC-MSOP-8-846AD-01_M (SOP, 8-Leads, Body 3.1x3.1mm, Pitch 0.65mm, IPC Low Density)
pins: 1 ~{INC} (in) "Increment Control", 2 U/~{D} (in) "Up/Down Control", 3 RH "Potentiometer High Terminal", 4 GND (power) "Ground", 5 RW, 6 RL "Potentiometer Low Terminal", 7 ~{CS} (in) "Chip Select", 8 VCC (power) "Supply Voltage"

## CAT5114ZI-50-GT3
designator U?
32 Tap Digital Potentiometer (POT), -40 to 85 degC, 8-Pin MSOP, Pb-Free, Tape and Reel; Manufacturer: On Semiconductor; PartNumber: CAT5114ZI-50-GT3; # of Pots: 1; # of Taps: 32; Control Interface: Up/Down; VDD Max (V): 6; DatasheetVersion: Rev. 23; PackageVersion: Rev. O, 12/2008; PackageReference: MSOP-8-846AD-01_O; PackageDescription: 8-Pin Small Outline Package, Body 3 x 3 mm, Pitch 0.65 mm; Supplier 1: Digi-Key; Supplier Part Number 1: CAT5114ZI-50-GT3-ND; Supplier 2: Mouser; Supplier Part Number 2: 698-CAT5114ZI-50-GT3; Packing: Tape and Reel; RoHS: TRUE; Type: Potentiometer; Mounting Technology: Surface Mount; Code_JEDEC: MO-187; ComponentLink1Description: Manufacturer URL; ComponentLink1URL: http://www.onsemi.com/; ComponentLink2Description: Datasheet; ComponentLink2URL: http://www.onsemi.com/pub_link/Collateral/CAT5114-D.PDF; ComponentLink3Description: Package Specification; ComponentLink3URL: http://www.onsemi.com/pub_link/Collateral/846AD.PDF
footprint ONSC-MSOP-8-846AD-01_N (SOP, 8-Leads, Body 3.1x3.1mm, Pitch 0.65mm, IPC Medium Density)
footprint ONSC-MSOP-8-846AD-01_L (SOP, 8-Leads, Body 3.1x3.1mm, Pitch 0.65mm, IPC High Density)
footprint ONSC-MSOP-8-846AD-01_M (SOP, 8-Leads, Body 3.1x3.1mm, Pitch 0.65mm, IPC Low Density)
pins: 1 ~{INC} (in) "Increment Control", 2 U/~{D} (in) "Up/Down Control", 3 RH "Potentiometer High Terminal", 4 GND (power) "Ground", 5 RW, 6 RL "Potentiometer Low Terminal", 7 ~{CS} (in) "Chip Select", 8 VCC (power) "Supply Voltage"

## CAT5115LI-00-G
designator U?
32 Tap Digital Potentiometer (POT), -40 to 85 degC, 8-Pin PDIP, Pb-Free, Tube; Manufacturer: On Semiconductor; PartNumber: CAT5115LI-00-G; # of Pots: 1; # of Taps: 32; Control Interface: Up/Down; VDD Max (V): 6; DatasheetVersion: Rev. 11; PackageVersion: Rev. A, 03/2009; PackageReference: PDIP-8-646AA-01; PackageDescription: 8-Pin Plastic Dual-In Line Package, Body 9.59 x 6.605 mm, Pitch 2.54 mm; Supplier 1: Mouser; Supplier Part Number 1: 698-CAT5115LI-00-G; Packing: Tube; RoHS: TRUE; Type: Potentiometer; Mounting Technology: Through Hole; Code_JEDEC: MS-001; ComponentLink1Description: Manufacturer URL; ComponentLink1URL: http://www.onsemi.com/; ComponentLink2Description: Datasheet; ComponentLink2URL: http://www.onsemi.com/pub_link/Collateral/CAT5115-D.PDF; ComponentLink3Description: Package Specification; ComponentLink3URL: http://www.onsemi.com/pub_link/Collateral/646AA.PDF
footprint ONSC-PDIP-8-646AA-01 (DIP, 8-Leads, Body 10.15x7.1mm, Pitch 2.54mm)
pins: 1 ~{INC} (in) "Increment Control", 2 U/~{D} (in) "Up/Down Control", 3 RH "Potentiometer High Terminal", 4 GND (power) "Ground", 5 RW, 6 RL "Potentiometer Low Terminal", 7 ~{CS} (in) "Chip Select", 8 VCC (power) "Supply Voltage"

## CAT5115LI-10-G
designator U?
32 Tap Digital Potentiometer (POT), -40 to 85 degC, 8-Pin PDIP, Pb-Free, Tube; Manufacturer: On Semiconductor; PartNumber: CAT5115LI-10-G; # of Pots: 1; # of Taps: 32; Control Interface: Up/Down; VDD Max (V): 6; DatasheetVersion: Rev. 11; PackageVersion: Rev. A, 03/2009; PackageReference: PDIP-8-646AA-01; PackageDescription: 8-Pin Plastic Dual-In Line Package, Body 9.59 x 6.605 mm, Pitch 2.54 mm; Supplier 1: Mouser; Supplier Part Number 1: 698-CAT5115LI-10-G; Packing: Tube; RoHS: TRUE; Type: Potentiometer; Mounting Technology: Through Hole; Code_JEDEC: MS-001; ComponentLink1Description: Manufacturer URL; ComponentLink1URL: http://www.onsemi.com/; ComponentLink2Description: Datasheet; ComponentLink2URL: http://www.onsemi.com/pub_link/Collateral/CAT5115-D.PDF; ComponentLink3Description: Package Specification; ComponentLink3URL: http://www.onsemi.com/pub_link/Collateral/646AA.PDF
footprint ONSC-PDIP-8-646AA-01 (DIP, 8-Leads, Body 10.15x7.1mm, Pitch 2.54mm)
pins: 1 ~{INC} (in) "Increment Control", 2 U/~{D} (in) "Up/Down Control", 3 RH "Potentiometer High Terminal", 4 GND (power) "Ground", 5 RW, 6 RL "Potentiometer Low Terminal", 7 ~{CS} (in) "Chip Select", 8 VCC (power) "Supply Voltage"

## CAT5115LI-50-G
designator U?
32 Tap Digital Potentiometer (POT), -40 to 85 degC, 8-Pin PDIP, Pb-Free, Tube; Manufacturer: On Semiconductor; PartNumber: CAT5115LI-50-G; # of Pots: 1; # of Taps: 32; Control Interface: Up/Down; VDD Max (V): 6; DatasheetVersion: Rev. 11; PackageVersion: Rev. A, 03/2009; PackageReference: PDIP-8-646AA-01; PackageDescription: 8-Pin Plastic Dual-In Line Package, Body 9.59 x 6.605 mm, Pitch 2.54 mm; Supplier 1: Mouser; Supplier Part Number 1: 698-CAT5115LI-50-G; Packing: Tube; RoHS: TRUE; Type: Potentiometer; Mounting Technology: Through Hole; Code_JEDEC: MS-001; ComponentLink1Description: Manufacturer URL; ComponentLink1URL: http://www.onsemi.com/; ComponentLink2Description: Datasheet; ComponentLink2URL: http://www.onsemi.com/pub_link/Collateral/CAT5115-D.PDF; ComponentLink3Description: Package Specification; ComponentLink3URL: http://www.onsemi.com/pub_link/Collateral/646AA.PDF
footprint ONSC-PDIP-8-646AA-01 (DIP, 8-Leads, Body 10.15x7.1mm, Pitch 2.54mm)
pins: 1 ~{INC} (in) "Increment Control", 2 U/~{D} (in) "Up/Down Control", 3 RH "Potentiometer High Terminal", 4 GND (power) "Ground", 5 RW, 6 RL "Potentiometer Low Terminal", 7 ~{CS} (in) "Chip Select", 8 VCC (power) "Supply Voltage"

## CAT5115VI-00-GT3
designator U?
32 Tap Digital Potentiometer (POT), -40 to 85 degC, 8-Pin SOIC, Pb-Free, Tape and Reel; Manufacturer: On Semiconductor; PartNumber: CAT5115VI-00-GT3; # of Pots: 1; # of Taps: 32; Control Interface: Up/Down; VDD Max (V): 6; DatasheetVersion: Rev. 11; PackageVersion: Rev. O, 12/2008; PackageReference: SOIC-8-751BD-01; PackageDescription: 8-Pin Small Outline Integrated Circuit, Body 4.9 x 3.9 mm, Pitch 1.27 mm; Supplier 1: Mouser; Supplier Part Number 1: 863-CAT5115VI-00-GT3; Packing: Tape and Reel; RoHS: TRUE; Type: Potentiometer; Mounting Technology: Surface Mount; Code_JEDEC: MS-012; ComponentLink1Description: Manufacturer URL; ComponentLink1URL: http://www.onsemi.com/; ComponentLink2Description: Datasheet; ComponentLink2URL: http://www.onsemi.com/pub_link/Collateral/CAT5115-D.PDF; ComponentLink3Description: Package Specification; ComponentLink3URL: http://www.onsemi.com/pub_link/Collateral/751BD.PDF
footprint ONSC-SOIC-8-751BD-01_N (SOIC, 8-Leads, Body 5x4mm, Pitch 1.27mm, IPC Medium Density)
footprint ONSC-SOIC-8-751BD-01_L (SOIC, 8-Leads, Body 5x4mm, Pitch 1.27mm, IPC High Density)
footprint ONSC-SOIC-8-751BD-01_M (SOIC, 8-Leads, Body 5x4mm, Pitch 1.27mm, IPC Low Density)
pins: 1 ~{INC} (in) "Increment Control", 2 U/~{D} (in) "Up/Down Control", 3 RH "Potentiometer High Terminal", 4 GND (power) "Ground", 5 RW, 6 RL "Potentiometer Low Terminal", 7 ~{CS} (in) "Chip Select", 8 VCC (power) "Supply Voltage"